# EAGLE library part 750343661 (library WE-OLTI)
WE-OLTI Offline Flyback Transformers Characteristics Nominal input voltage: 85–265 VAC (120–375 VDC) Small size Low leakage inductance Multiple-output options Operating temperature: −40 °C to +125 °C Isolation Voltage: 2 kVAC to 5 kVAC Options for fixed frequency or quasi-resonant mode operation Most products meet reinforced insulation Applications Industrial controls USB chargers Utility metering devices Process controls Factory automation Security systems Garage door opener auxiliary supplies Home appliances Especially designed for several ICs from Texas Instruments Details see: www.we-online.com/en/components/products/WE-OLTI Created by Ella 2025-02-06 2025 (C) Würth Elektronik
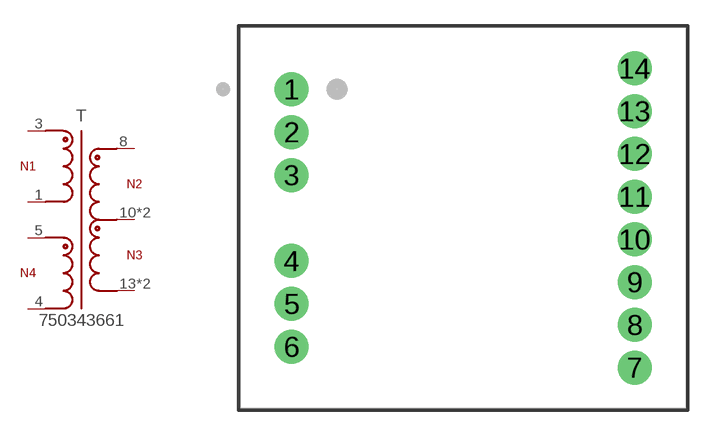
[diagram p12: symbol with the pads of WE-OLTI_EE20/10/6_L22.2W26H16.5; footprint WE-OLTI_EE20/10/6_L22.2W26H16.5]

Designator prefix T

## 750343661 (AUXILIARY_VOLTAGE_1: 15 V; CATEGORY: Transformers; DATASHEET: https://www.we-online.com/redexpert/spec/750343661?ae; HEIGHT: 16 mm; INDUCTANCE: 500 uH; INPUT_VOLTAGE: 71 - 301 V (AC); INSULATION_TEST_VOLTAGE: 3000 V (AC); LENGTH: 22.2 mm; MANUFACTURER: Würth Elektronik; MOUNT: THT; MPN: 750343661; OUTPUT_CURRENT_1: 250 mA; OUTPUT_CURRENT_2: 3000 mA; OUTPUT_VOLTAGE_1: 15 V; OUTPUT_VOLTAGE_2: 5 V; SATURATION_CURRENT: 6 A; SIZE: EE20/10/6; SWITCHING-FREQUENCY: 85kHz; TURNS_RATIO: 8:1.75:1:2.75; VALUE: 500 uH; WIDTH: 25.8 mm)  [WE-OLTI_EE20/10/6_L22.2W26H16.5]
1  1  pas
3  3  pas
4  4  pas
5  5  pas
8  8  pas
10  10+11  pas
11  10+11  pas
13  13+14  pas
14  13+14  pas

## Footprint WE-OLTI_EE20/10/6_L22.2W26H16.5 (pad centres in mm)
WE-OLTI Offline Flyback Transformers Size:EE20/10/6,THT,14pins LXWXH=22.2X26X16mm Bobbin: 070-5643
drill 1.32: 1 -10,7.5; 2 -10,5; 3 -10,2.5; 4 -10,-2.5; 5 -10,-5; 6 -10,-7.5; 7 10,-8.715; 8 10,-6.225; 9 10,-3.735; 10 10,-1.245; 11 10,1.245; 12 10,3.735; 13 10,6.225; 14 10,8.715